# EAGLE library part WE-UNIT_NXP_750871831 (library Wurth_Elektronik_Passive_rev15e)
Off-Line Transformer WE-Unit NXP - Nominal input voltage: 85-265 VAC - Operating temperature: -40°C to +125 °C - Isolation voltage 4 kVAC -- Especially designed for several ICs from NXP TEA1623PH -- Universal input -- Smart meters -- Dimmable 12 V LED driver -- Offline-switch mode power supplies <http://katalog.we-online.de/media/images/ctm/UtUNIT_NXP_pf2.jpg> Details see: http://katalog.we-online.de/en/ctm/MID-UNIT_NXP/750871831? Updated by Dan Xu 2014-07-11 2014 (C) Würth Elektronik
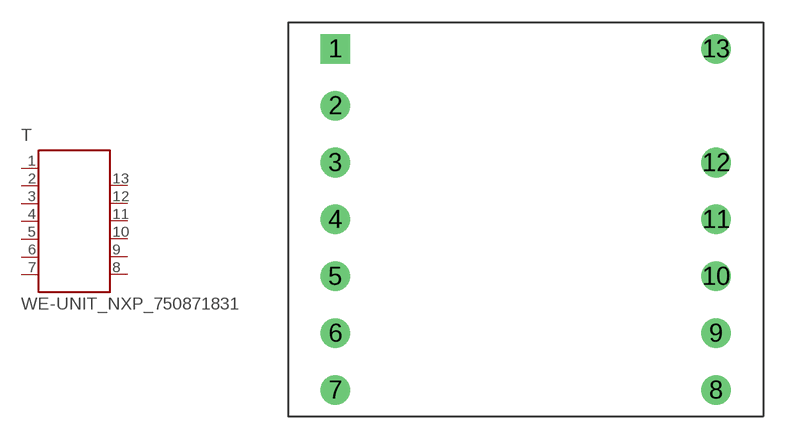
[diagram p60: symbol with the pads of WE_EE25/13/7_THT_HORIZONTAL_13PIN; footprint WE_EE25/13/7_THT_HORIZONTAL_13PIN]

Designator prefix T

## WE-UNIT_NXP_750871831  [WE_EE25/13/7_THT_HORIZONTAL_13PIN]
1  1  pas
2  2  pas
3  3  pas
4  4  pas
5  5  pas
6  6  pas
7  7  pas
8  8  pas
9  9  pas
10  10  pas
11  11  pas
12  12  pas
13  13  pas

## Footprint WE_EE25/13/7_THT_HORIZONTAL_13PIN (pad centres in mm)
Transformer, EE25/13/7 THT Horizontal 13 Pin
drill 1.32 square: 1 -12.75,11.43
drill 1.32: 2 -12.75,7.62; 3 -12.75,3.81; 4 -12.75,0; 5 -12.75,-3.81; 6 -12.75,-7.62; 7 -12.75,-11.43; 8 12.75,-11.43; 9 12.75,-7.62; 10 12.75,-3.81; 11 12.75,0; 12 12.75,3.81; 13 12.75,11.43